# EAGLE library part 40PINFPC (library DMF_adafruit)
OMRON FPC Connector Source : http://www.omron.com/ecb/products/pdf/fpc.pdf XF2M-4015-rev is good for connecting up 'PSP' SHARP LQ043 LCDs
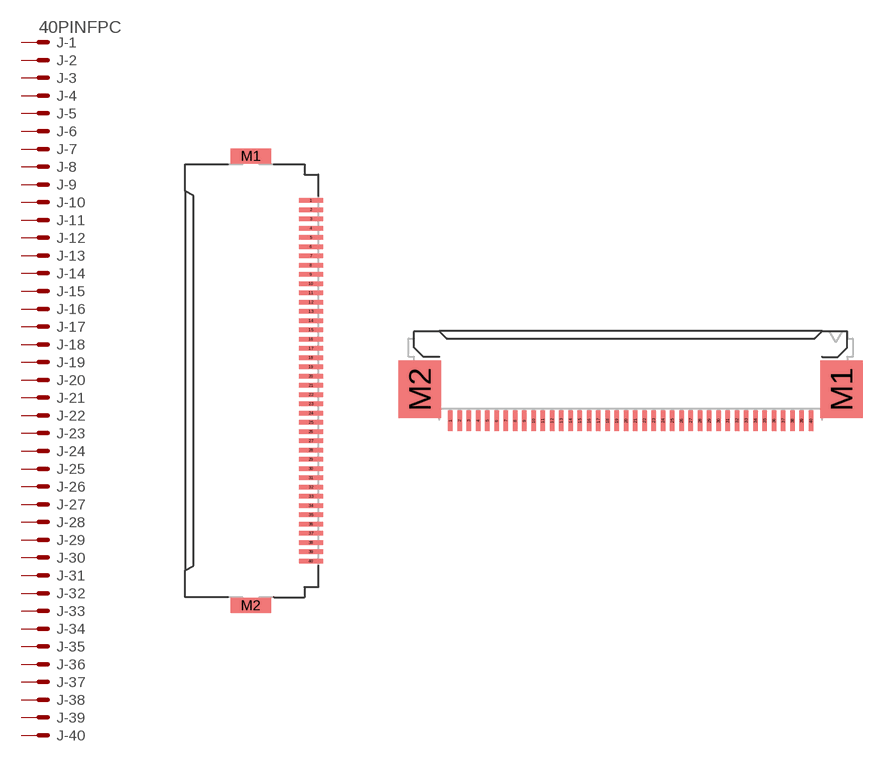
[diagram p60: symbol with the pads of XF2H-4015-1LW; footprints XF2H-4015-1LW, 4-1734839-0]

Designator prefix J; gates -1=PV -2=P -3=P -4=P -5=P -6=P -7=P -8=P -9=P -10=P -11=P -12=P -13=P -14=P -15=P -16=P -17=P -18=P -19=P -20=P -21=P -22=P -23=P -24=P -25=P -26=P -27=P -28=P -29=P -30=P -31=P -32=P -33=P -34=P -35=P -36=P -37=P -38=P -39=P -40=P

## 40PINFPCH15-1LW  [XF2H-4015-1LW]
1  -1:MSV  pas
2  -2:MS  pas
3  -3:MS  pas
4  -4:MS  pas
5  -5:MS  pas
6  -6:MS  pas
7  -7:MS  pas
8  -8:MS  pas
9  -9:MS  pas
10  -10:MS  pas
11  -11:MS  pas
12  -12:MS  pas
13  -13:MS  pas
14  -14:MS  pas
15  -15:MS  pas
16  -16:MS  pas
17  -17:MS  pas
18  -18:MS  pas
19  -19:MS  pas
20  -20:MS  pas
21  -21:MS  pas
22  -22:MS  pas
23  -23:MS  pas
24  -24:MS  pas
25  -25:MS  pas
26  -26:MS  pas
27  -27:MS  pas
28  -28:MS  pas
29  -29:MS  pas
30  -30:MS  pas
31  -31:MS  pas
32  -32:MS  pas
33  -33:MS  pas
34  -34:MS  pas
35  -35:MS  pas
36  -36:MS  pas
37  -37:MS  pas
38  -38:MS  pas
39  -39:MS  pas
40  -40:MS  pas

## 40PINFPCM4-1734839-0  [4-1734839-0]
Pads as for XF2H-4015-1LW

## 40PINFPCR15-4A  [XF2R-4015-4A]
Pads as for XF2H-4015-1LW

## 40PINFPC15-1F-REV  [XF2M-4015-1F-REVERSE]
Pads as for XF2H-4015-1LW

## Footprint XF2H-4015-1LW (pad centres in mm)
Standard Rotary Backlock Type (0.5 mm-pitch) Source : http://www.omron.com/ecb/products/pdf/fpc.pdf
smd 1.3 x 0.25: 1 3.175,9.75; 2 3.175,9.25; 3 3.175,8.75; 4 3.175,8.25; 5 3.175,7.75; 6 3.175,7.25; 7 3.175,6.75; 8 3.175,6.25; 9 3.175,5.75; 10 3.175,5.25; 11 3.175,4.75; 12 3.175,4.25; 13 3.175,3.75; 14 3.175,3.25; 15 3.175,2.75; 16 3.175,2.25; 17 3.175,1.75; 18 3.175,1.25; 19 3.175,0.75; 20 3.175,0.25; 21 3.175,-0.25; 22 3.175,-0.75; 23 3.175,-1.25; 24 3.175,-1.75; 25 3.175,-2.25; 26 3.175,-2.75; 27 3.175,-3.25; 28 3.175,-3.75; 29 3.175,-4.25; 30 3.175,-4.75; 31 3.175,-5.25; 32 3.175,-5.75; 33 3.175,-6.25; 34 3.175,-6.75; 35 3.175,-7.25; 36 3.175,-7.75; 37 3.175,-8.25; 38 3.175,-8.75; 39 3.175,-9.25; 40 3.175,-9.75
smd 2.2 x 0.8: M1 -0.075,12.15; M2 -0.075,-12.15

## Footprint 4-1734839-0 (pad centres in mm)
Reduced-area Rotary Backlock Type (0.5 mm-pitch) Source : http://www.omron.com/ecb/products/pdf/fpc.pdf
smd 0.25 x 1.1: 1 -9.75,-2.54; 2 -9.25,-2.54; 3 -8.75,-2.54; 4 -8.25,-2.54; 5 -7.75,-2.54; 6 -7.25,-2.54; 7 -6.75,-2.54; 8 -6.25,-2.54; 9 -5.75,-2.54; 10 -5.25,-2.54; 11 -4.75,-2.54; 12 -4.25,-2.54; 13 -3.75,-2.54; 14 -3.25,-2.54; 15 -2.75,-2.54; 16 -2.25,-2.54; 17 -1.75,-2.54; 18 -1.25,-2.54; 19 -0.75,-2.54; 20 -0.25,-2.54; 21 0.25,-2.54; 22 0.75,-2.54; 23 1.25,-2.54; 24 1.75,-2.54; 25 2.25,-2.54; 26 2.75,-2.54; 27 3.25,-2.54; 28 3.75,-2.54; 29 4.25,-2.54; 30 4.75,-2.54; 31 5.25,-2.54; 32 5.75,-2.54; 33 6.25,-2.54; 34 6.75,-2.54; 35 7.25,-2.54; 36 7.75,-2.54; 37 8.25,-2.54; 38 8.75,-2.54; 39 9.25,-2.54; 40 9.75,-2.54
smd 2.3 x 3.1: M1 11.4,-0.84; M2 -11.4,-0.84

## Footprint XF2R-4015-4A (pad centres in mm)
Low-profile Rotary Backlock Type (0.5 mm-pitch) Source : http://www.omron.com/ecb/products/pdf/fpc.pdf
smd 0.85 x 0.25: 1 -2.54,9.75; 2 -2.54,9.25; 3 -2.54,8.75; 4 -2.54,8.25; 5 -2.54,7.75; 6 -2.54,7.25; 7 -2.54,6.75; 8 -2.54,6.25; 9 -2.54,5.75; 10 -2.54,5.25; 11 -2.54,4.75; 12 -2.54,4.25; 13 -2.54,3.75; 14 -2.54,3.25; 15 -2.54,2.75; 16 -2.54,2.25; 17 -2.54,1.75; 18 -2.54,1.25; 19 -2.54,0.75; 20 -2.54,0.25; 21 -2.54,-0.25; 22 -2.54,-0.75; 23 -2.54,-1.25; 24 -2.54,-1.75; 25 -2.54,-2.25; 26 -2.54,-2.75; 27 -2.54,-3.25; 28 -2.54,-3.75; 29 -2.54,-4.25; 30 -2.54,-4.75; 31 -2.54,-5.25; 32 -2.54,-5.75; 33 -2.54,-6.25; 34 -2.54,-6.75; 35 -2.54,-7.25; 36 -2.54,-7.75; 37 -2.54,-8.25; 38 -2.54,-8.75; 39 -2.54,-9.25; 40 -2.54,-9.75
smd 1.4 x 1: M1 -0.915,11.05; M2 -0.915,-11.05

## Footprint XF2M-4015-1F-REVERSE (pad centres in mm)
smd 1.1 x 0.25: 1 -2.54,9.75; 2 -2.54,9.25; 3 -2.54,8.75; 4 -2.54,8.25; 5 -2.54,7.75; 6 -2.54,7.25; 7 -2.54,6.75; 8 -2.54,6.25; 9 -2.54,5.75; 10 -2.54,5.25; 11 -2.54,4.75; 12 -2.54,4.25; 13 -2.54,3.75; 14 -2.54,3.25; 15 -2.54,2.75; 16 -2.54,2.25; 17 -2.54,1.75; 18 -2.54,1.25; 19 -2.54,0.75; 20 -2.54,0.25; 21 -2.54,-0.25; 22 -2.54,-0.75; 23 -2.54,-1.25; 24 -2.54,-1.75; 25 -2.54,-2.25; 26 -2.54,-2.75; 27 -2.54,-3.25; 28 -2.54,-3.75; 29 -2.54,-4.25; 30 -2.54,-4.75; 31 -2.54,-5.25; 32 -2.54,-5.75; 33 -2.54,-6.25; 34 -2.54,-6.75; 35 -2.54,-7.25; 36 -2.54,-7.75; 37 -2.54,-8.25; 38 -2.54,-8.75; 39 -2.54,-9.25; 40 -2.54,-9.75
smd 1.5 x 1.7: M1 1.36,11.4; M2 1.36,-11.4